# Altium footprint library DPAK3P457_990X238L158X95T551X546N.PcbLib: 1 footprints
Each footprint in its own frame and in the unit in brackets; x right, y up, seen from the top. Pads: shape width x height; smd on the part's side, far side on the other; paste and mask are expansions set on the pad; w line width, h text height; cw(c..) or ccw(c..) is an arc to the next point about the centre after c.
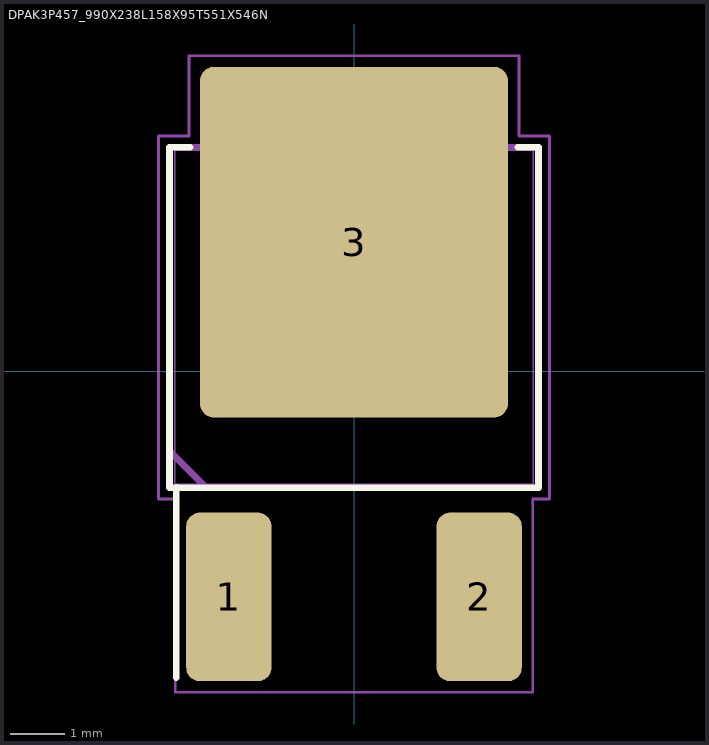
[diagram p0: the footprint, top view; thin cyan lines are the x and y axes]

## DPAK3P457_990X238L158X95T551X546N [mm] "DPAK, 4.572 mm pitch; 2 pin, 6.096 mm L X 6.541 mm W X 2.388 mm H body"
height 2.388
pads (3):
  rrect32% 1.56x3.08 smd: 1(-2.286,-4.12) 2(2.286,-4.12)
  rrect9% 5.63x6.41 smd paste-6.41: 3(0,2.36)
Top Overlay:
  lines w0.12: -3.25,-5.6 -3.25,-2.12 ; -2.995,4.098 -3.37,4.098 -3.37,-2.122 3.37,-2.122 3.37,4.098 2.995,4.098
Top Paste:
  region: -0.47,3.745 -2.35,3.745 -2.35,5.255 -0.47,5.255
  region: -0.47,1.605 -2.35,1.605 -2.35,3.115 -0.47,3.115
  region: -0.47,-0.535 -2.35,-0.535 -2.35,0.975 -0.47,0.975
  region: 2.35,3.745 0.47,3.745 0.47,5.255 2.35,5.255
  region: 2.35,1.605 0.47,1.605 0.47,3.115 2.35,3.115
  region: 2.35,-0.535 0.47,-0.535 0.47,0.975 2.35,0.975
Mechanical 3:
  lines w0.12: -3.37,-1.456 -2.704,-2.122 3.37,-2.122 3.37,4.098 -3.37,4.098 -3.37,-1.456
Mechanical 5:
  lines w0.025: -3.27,-2.06 3.27,-2.06 3.27,4.036 -3.27,4.036 -3.27,-2.06 ; -2.762,-4.953 -2.762,-3.365 -1.81,-3.365 -1.81,-4.953 -2.762,-4.953 ; -2.73,-0.559 -2.73,4.953 2.73,4.953 2.73,-0.559 -2.73,-0.559 ; 1.81,-4.953 1.81,-3.365 2.762,-3.365 2.762,-4.953 1.81,-4.953
Mechanical 7:
  circle w0.05: c0,0 r0.25
  lines w0.05: -0.35,0 0.35,0 ; 0,-0.35 0,0.35 ; -3.57,-2.33 -3.266,-2.33 -3.266,-5.86 3.266,-5.86 3.266,-2.33 3.57,-2.33 3.57,4.3 3.015,4.3 3.015,5.765 -3.015,5.765 -3.015,4.3 -3.57,4.3 -3.57,-2.33
Mechanical 9:
  text "'.Designator'" at -5.596,-0.533 h1
3D body "DPAK3P457_990X238L158X95T551X546.STEP": height 2.39, standoff 0, extent -3.27,-4.953 3.27,4.953
3D body: height 0.25, standoff 0, extent -3.57,-5.86 3.57,5.765